# Altium footprint library TO-92_Forming2.PcbLib: 1 footprints
Each footprint in its own frame and in the unit in brackets; x right, y up, seen from the top. Pads: shape width x height; smd on the part's side, far side on the other; paste and mask are expansions set on the pad; w line width, h text height; cw(c..) or ccw(c..) is an arc to the next point about the centre after c.
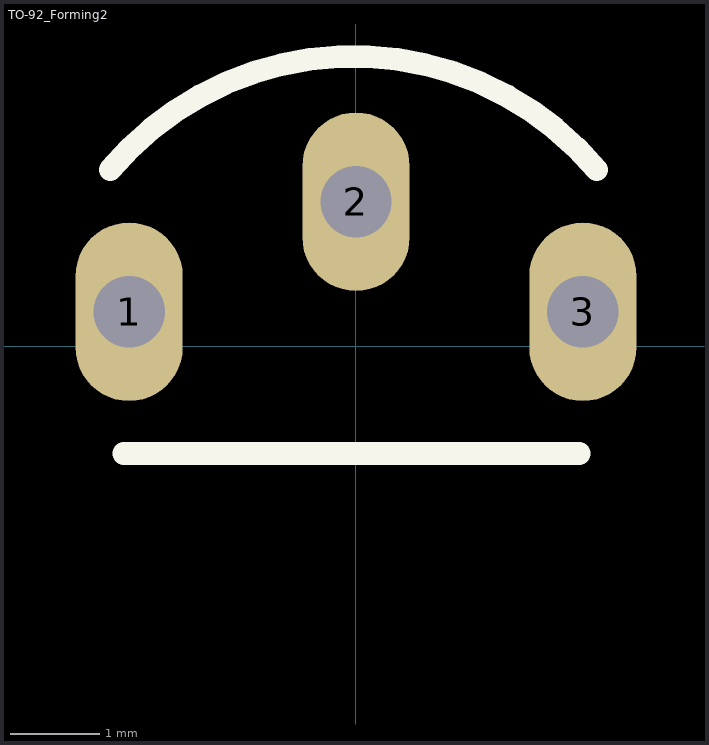
[diagram p0: the footprint, top view; thin cyan lines are the x and y axes]

## TO-92_Forming2 [mm]
pads (3):
  oval 1.2x2 hole 0.8: 1(-2.54,0.387) 2(0,1.619) 3(2.54,0.387)
Top Overlay:
  lines w0.254: -2.753,1.976 cw(c-0.029,-0.31) 2.695,1.976 ; -2.6,-1.2 2.5,-1.2
3D body: height 7.14, standoff -0.9, extent -2.84,-1.1 2.84,2.7